# EAGLE library part MKL02Z32VFK4 (library TuesdayR3)
IC, MCU, 32BIT, CORTEX M0+, 48MHZ, QFN-24
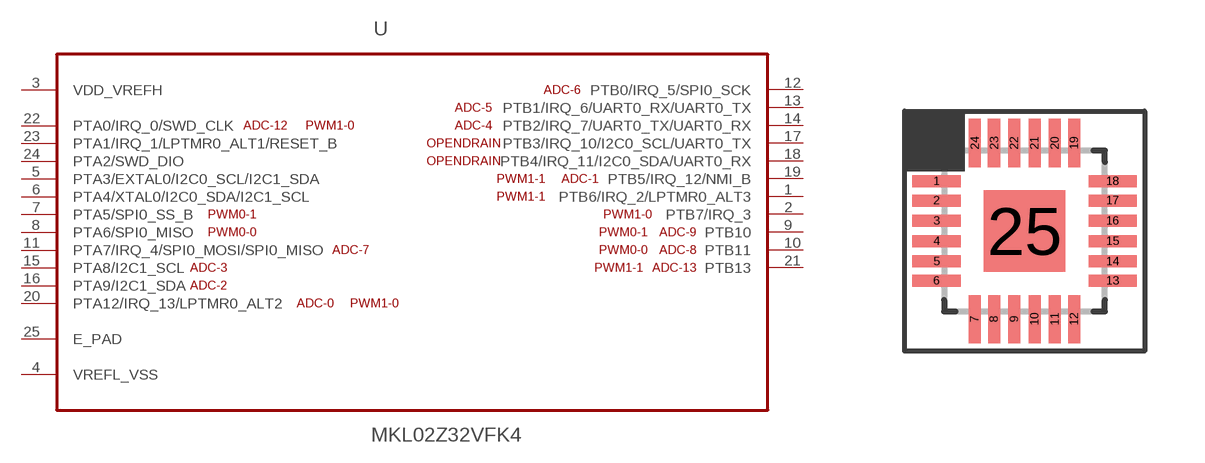
[diagram p4: symbol with the pads of QFN50P400X400X100-25N; footprint QFN50P400X400X100-25N]

Designator prefix U

## MKL02Z32VFK4 (MPN: MKL02Z32VFK4; OC_FARNELL: 2321481; OC_NEWARK: 61W9887; PACKAGE: QFN-24; SUPPLIER: FREESCALE SEMICONDUCTOR)  [QFN50P400X400X100-25N]
1  PTB6/IRQ_2/LPTMR0_ALT3
2  PTB7/IRQ_3
3  VDD_VREFH  pwr
4  VREFL_VSS  pas
5  PTA3/EXTAL0/I2C0_SCL/I2C1_SDA
6  PTA4/XTAL0/I2C0_SDA/I2C1_SCL
7  PTA5/SPI0_SS_B
8  PTA6/SPI0_MISO
9  PTB10
10  PTB11
11  PTA7/IRQ_4/SPI0_MOSI/SPI0_MISO
12  PTB0/IRQ_5/SPI0_SCK
13  PTB1/IRQ_6/UART0_RX/UART0_TX
14  PTB2/IRQ_7/UART0_TX/UART0_RX
15  PTA8/I2C1_SCL
16  PTA9/I2C1_SDA
17  PTB3/IRQ_10/I2C0_SCL/UART0_TX
18  PTB4/IRQ_11/I2C0_SDA/UART0_RX
19  PTB5/IRQ_12/NMI_B
20  PTA12/IRQ_13/LPTMR0_ALT2
21  PTB13
22  PTA0/IRQ_0/SWD_CLK
23  PTA1/IRQ_1/LPTMR0_ALT1/RESET_B
24  PTA2/SWD_DIO
25  E_PAD  pas

## Footprint QFN50P400X400X100-25N (pad centres in mm)
smd 1.2 x 0.3: 1 -2.2,1.245; 2 -2.2,0.762; 3 -2.2,0.254; 4 -2.2,-0.254; 5 -2.2,-0.762; 6 -2.2,-1.245; 13 2.2,-1.245; 14 2.2,-0.762; 15 2.2,-0.254; 16 2.2,0.254; 17 2.2,0.762; 18 2.2,1.245
smd 0.3 x 1.2: 7 -1.245,-2.2; 8 -0.762,-2.2; 9 -0.254,-2.2; 10 0.254,-2.2; 11 0.762,-2.2; 12 1.245,-2.2; 19 1.245,2.2; 20 0.762,2.2; 21 0.254,2.2; 22 -0.254,2.2
smd 0.305 x 1.2: 23 -0.762,2.2; 24 -1.245,2.2
smd 2.032 x 2.032: 25 0,0